# Altium schematic symbol library MC34063ECD-TR.SchLib: 1 symbol
Pins are listed as number, name and electrical type; pins without a type are passive.

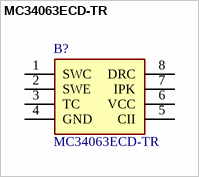
[diagram p0: symbol MC34063ECD-TR]

## MC34063ECD-TR
designator B?
STMicroelectronics, MC34063ECD-TR; Geometry.Height: 1.75mm; Mouser Part Number: 511-MC34063ECD-TR; Mouser Price/Stock: https://www.mouser.co.uk/ProductDetail/STMicroelectronics/MC34063ECD-TR?qs=yc0hdvjf4X927o4awNc7hw%3D%3D; Manufacturer_Name: STMicroelectronics; Manufacturer_Part_Number: MC34063ECD-TR; Datasheet Link: https://www.st.com/resource/en/datasheet/mc34063ec.pdf
footprint SOIC127P600X175-8N
pins: 1 SWC, 2 SWE, 3 TC, 4 GND, 5 CII, 6 VCC, 7 IPK, 8 DRC